# EAGLE library part TXB0104 (library HyTechDevices2)
Texas Instruments TXB0104 low voltage to high voltage Logic Level Shifter. Minimum input voltage level 1.8V. Maximum output voltage level 5.5V.
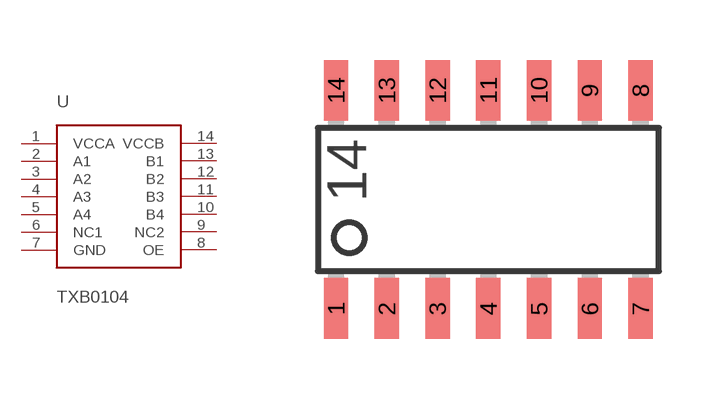
[diagram p55: symbol with the pads of SOIC-14; footprint SOIC-14]

Designator prefix -

## TXB0104  [SOIC-14]
1  VCCA
2  A1
3  A2
4  A3
5  A4
6  NC1
7  GND
8  OE
9  NC2
10  B4
11  B3
12  B2
13  B1
14  VCCB

## Footprint SOIC-14 (pad centres in mm)
Small Outline Integrated Circuit
smd 0.61 x 1.524: 1 -4.445,-2.794; 2 -3.175,-2.794; 3 -1.905,-2.794; 4 -0.635,-2.794; 5 0.635,-2.794; 6 1.905,-2.794; 7 3.175,-2.794; 8 3.175,2.667; 9 1.905,2.667; 10 0.635,2.667; 11 -0.635,2.667; 12 -1.905,2.667; 13 -3.175,2.667; 14 -4.445,2.667